# Altium footprint library VCNL4020.PcbLib: 1 footprints
Each footprint in its own frame and in the unit in brackets; x right, y up, seen from the top. Pads: shape width x height; smd on the part's side, far side on the other; paste and mask are expansions set on the pad; w line width, h text height; cw(c..) or ccw(c..) is an arc to the next point about the centre after c.
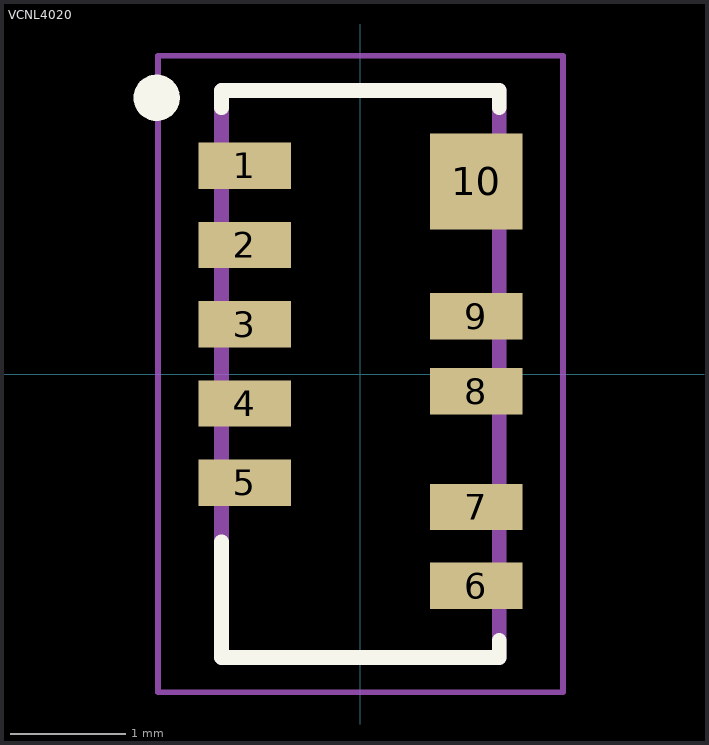
[diagram p0: the footprint, top view; thin cyan lines are the x and y axes]

## VCNL4020 [mm]
pads (10):
  rect 0.8x0.4 smd: 1(-1,1.8) 2(-1,1.115) 3(-1,0.43) 4(-1,-0.255) 5(-1,-0.94) 6(1,-1.83) 7(1,-1.15) 8(1,-0.15) 9(1,0.5)
  rect 0.8x0.83 smd: 10(1,1.665)
Top Overlay:
  circle w0.2: c-1.761,2.387 r0.1
  lines w0.127: -1.2,-1.45 -1.2,-2.45 1.2,-2.45 1.2,-2.3 ; -1.2,2.3 -1.2,2.45 1.2,2.45 1.2,2.3
Top 3D Body:
  lines w0.127: -1.2,-2.45 -1.2,2.45 1.2,2.45 1.2,-2.45 -1.2,-2.45
Top Courtyard:
  lines w0.05: -1.75,-2.75 -1.75,2.75 1.75,2.75 1.75,-2.75 -1.75,-2.75
3D body "VCNL4020-GS08.stp": height 0.93, standoff 0, extent -1.2,-2.45 1.2,2.45